# Altium footprint library fat34.PcbLib: 22 footprints (part 2 of 2)
Each footprint in its own frame and in the unit in brackets; x right, y up, seen from the top. Pads: shape width x height; smd on the part's side, far side on the other; paste and mask are expansions set on the pad; w line width, h text height; cw(c..) or ccw(c..) is an arc to the next point about the centre after c.
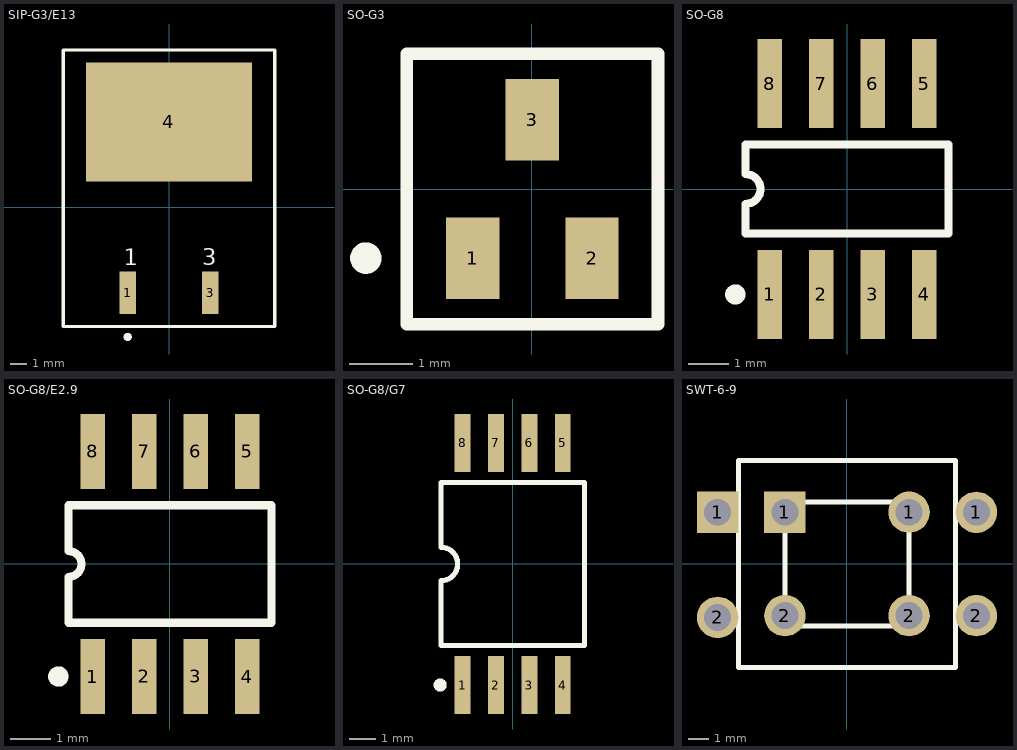
[diagram p1: the footprints below, top view; thin cyan lines are the x and y axes]

## SIP-G3/E13 [mm]
pads (3):
  rect 1x2.6 smd: 1(-2.547,-5.242) 3(2.533,-5.242)
  rect 10.2x7.3 smd: 4(-0.007,5.258)
Top Overlay:
  circle w0.25: c-2.547,-7.967 r0.125
  lines w0.2: -6.507,-7.317 6.493,-7.317 6.493,9.683 -6.507,9.683 -6.507,-7.317
  text "3" at 2.025,-3.567 h1
  text "1" at -2.797,-3.567 h1

## SO-G3 [mm]
pads (3):
  rect 0.85x1.3 smd: 1(-0.942,-1.094) 2(0.958,-1.094) 3(0.008,1.106)
Top Overlay:
  circle w0.25: c-2.642,-1.094 r0.125
  lines w0.2: -1.992,-2.144 -1.992,2.156 2.008,2.156 2.008,-2.144 -1.992,-2.144

## SO-G8 [mm]
pads (8):
  rect 0.6x2.2 smd: 1(-1.905,-2.596) 2(-0.635,-2.596) 3(0.635,-2.596) 4(1.905,-2.596) 5(1.905,2.604) 6(0.635,2.604) 7(-0.635,2.604) 8(-1.905,2.604)
Top Overlay:
  circle w0.25: c-2.755,-2.596 r0.125
  lines w0.2: -2.5,-1.096 2.499,-1.096 2.499,1.104 -2.5,1.104 -2.5,0.371 cw(c-2.5,0.004) -2.5,-0.362 -2.5,-1.096

## SO-G8/E2.9 [mm]
pads (8):
  rect 0.6x1.85 smd: 1(-1.893,-2.781) 2(-0.623,-2.781) 3(0.647,-2.781) 4(1.917,-2.781) 5(1.917,2.769) 6(0.647,2.769) 7(-0.623,2.769) 8(-1.893,2.769)
Top Overlay:
  circle w0.25: c-2.743,-2.781 r0.125
  lines w0.2: -2.488,-1.456 2.512,-1.456 2.512,1.444 -2.488,1.444 -2.488,0.311 cw(c-2.488,-0.006) -2.488,-0.324 -2.488,-1.456

## SO-G8/G7 [mm]
pads (8):
  rect 0.6x2.2 smd: 1(-1.899,-4.607) 2(-0.629,-4.607) 3(0.641,-4.607) 4(1.911,-4.607) 5(1.911,4.593) 6(0.641,4.593) 7(-0.629,4.593) 8(-1.899,4.593)
Top Overlay:
  circle w0.25: c-2.749,-4.607 r0.125
  lines w0.2: -2.719,-3.107 2.731,-3.107 2.731,3.093 -2.719,3.093 -2.719,0.628 cw(c-2.719,-0.007) -2.719,-0.642 -2.719,-3.107

## SWT-6-9 [mm]
pads (8):
  rect 2x2 hole 1.3: 1(-6.234,2.497) 1(-2.984,2.499)
  round 2 hole 1.3: 1(3.016,2.499) 1(6.266,2.497) 2(-6.234,-2.583) 2(-2.984,-2.501) 2(3.016,-2.501) 2(6.266,-2.503)
Top Overlay:
  lines w0.254: -5.234,-5.003 5.266,-5.003 5.266,4.997 -5.234,4.997 -5.234,-5.003 ; -2.984,-3.001 3.016,-3.001 3.016,2.999 -2.984,2.999 -2.984,-3.001